# EAGLE library part TPS61236P (library pimoroni-ics)
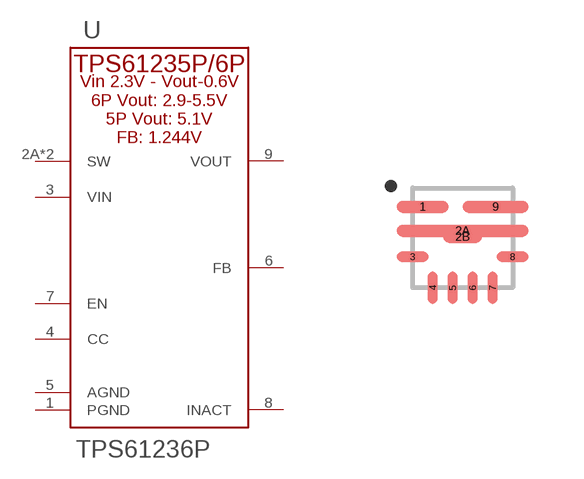
[diagram p135: symbol with the pads of TPS61236P; footprint TPS61236P]

Designator prefix U

## TPS61236P  [TPS61236P]
1  PGND
2A  SW
2B  SW
3  VIN
4  CC
5  AGND
6  FB
7  EN
8  INACT
9  VOUT

## Footprint TPS61236P (pad centres in mm)
smd 1.3 x 0.3: 1 -1,0.77
smd 3.3 x 0.3: 2A 0,0.17
smd 0.975 x 0.3: 2B 0,0.02
smd 0.8 x 0.25: 3 -1.25,-0.475; 8 1.25,-0.475
smd 0.25 x 0.8: 4 -0.75,-1.25; 5 -0.25,-1.25; 6 0.25,-1.25; 7 0.75,-1.25
smd 1.65 x 0.3: 9 0.825,0.77